# Altium schematic symbol library SDRdrum_Arty_RevA.SchLib: 22 symbols
Pins are listed as number, name and electrical type; pins without a type are passive.

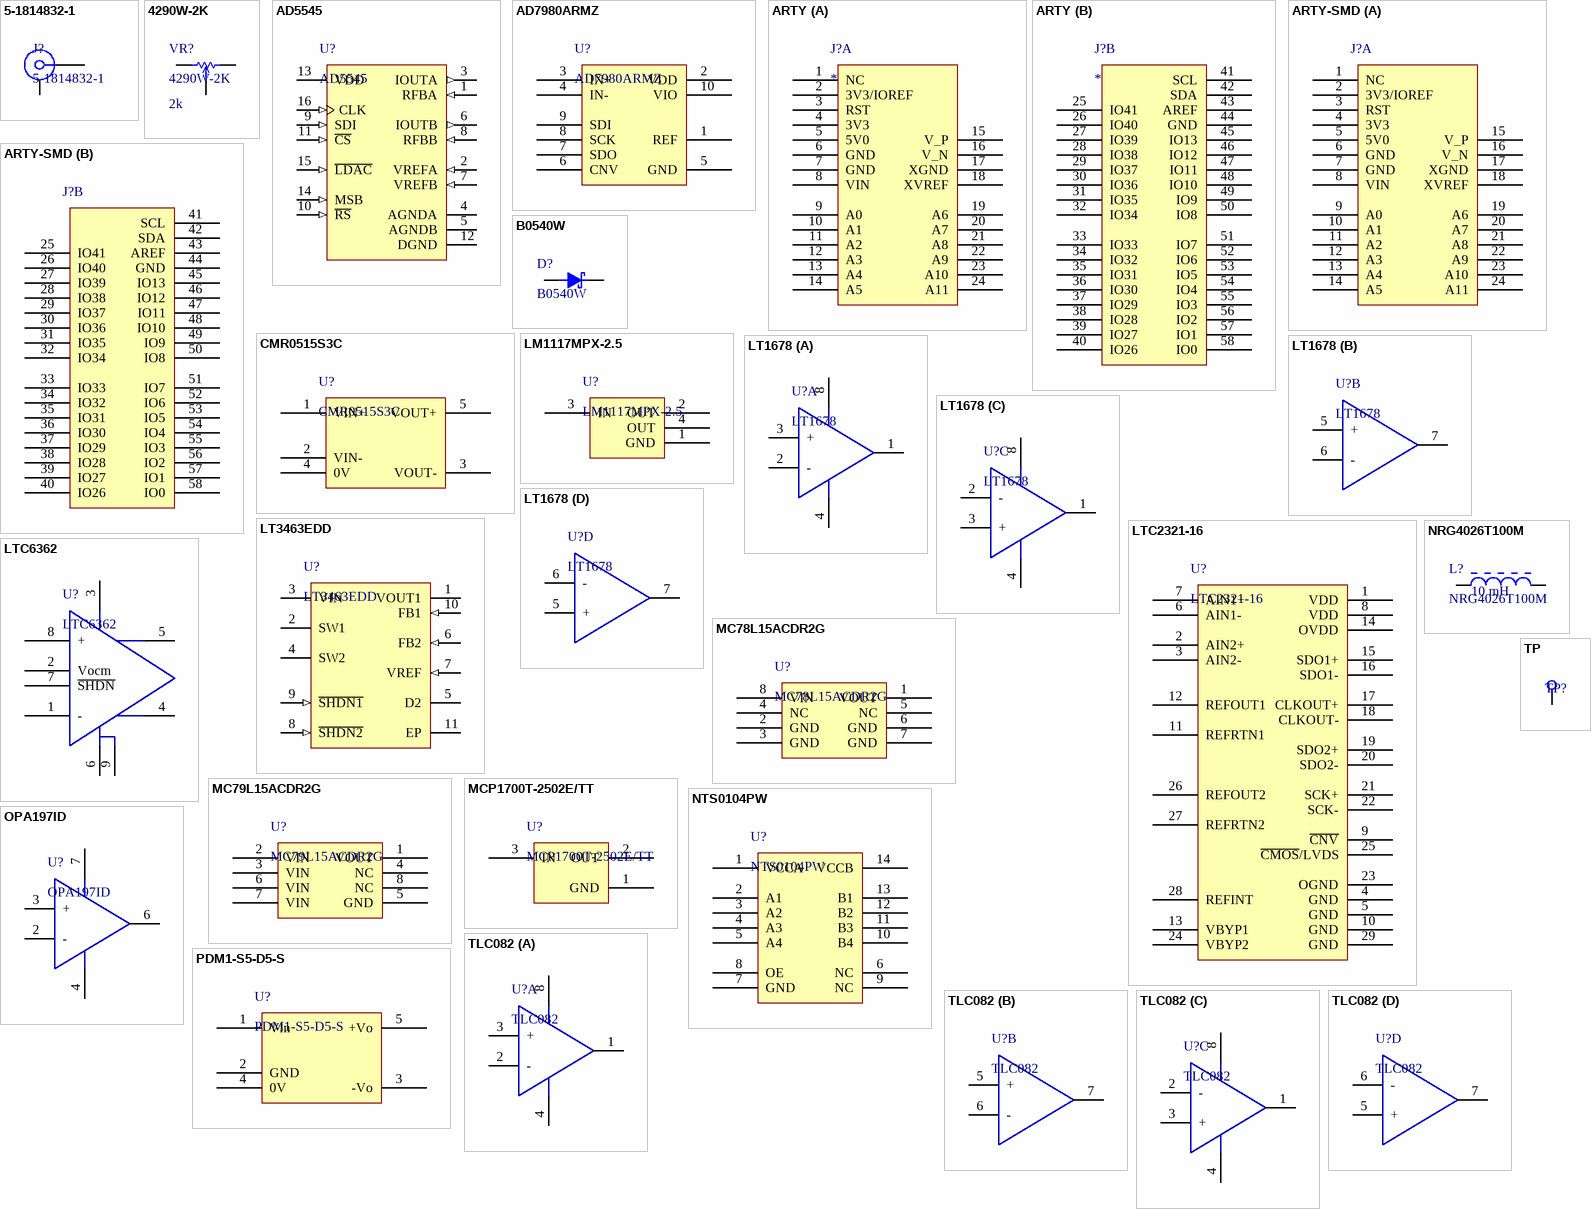
[diagram p0: symbols 5-1814832-1 to TP]

## 5-1814832-1
designator J?
footprint 5-1814832-1
pins: 1, MH

## 4290W-2K
designator VR?  value 2k
footprint 4290W
pins: 1, 2, 3

## AD5545
designator U?
Dual, Current-Output, Serial-Input, 16-Bit DAC, 16-Pin TSSOP; Supplier 1: Digi-Key; Supplier Part Number 1: AD5545BRUZ-ND
footprint TSOP65P640X120-16N (TSOP, 16-Leads, Body 5.00x4.40mm, Pitch 0.65mm, IPC Medium Density)
pins: 1 RFBA (in) "Establish voltage output for DAC A by connecting this pin to an external amplifier output", 2 VREFA (in) "DAC A Reference Voltage Input Terminal. Establishes DAC A full-scale output voltage. This pin can be tied to the VDD pin.", 3 IOUTA (out) "DAC A Current Output.", 4 AGNDA (power) "DAC A Analog Ground.", 5 AGNDB (power) "DAC B Analog Ground.", 6 IOUTB (out) "DAC B Current Output.", 7 VREFB (in) "DAC B Reference Voltage Input Terminal. Establishes DAC B full-scale output voltage. This pin can be tied to the VDD pin.", 8 RFBB (in) "Establish voltage output for DAC B by the RFBB pin connecting to an external amplifier output.", 9 SDI (in) "Serial Data Input. Input data loads directly into the shift register.", 10 ~{RS} (in) "Reset Pin, Active Low Input. Input registers and DAC registers are set to all 0s or midscale. Register Data = 0x0000 when MSB = 0. Register Data = 0x8000 for AD5545 and 0x2000 for AD5555 when MSB = 1.", 11 ~{CS} (in) "Chip Select, Active Low Input. Disables shift register loading when high. Transfers serial register data to the input register when C\S\/L\D\A\C\ returns high. This does not affect L\D\A\C\ operation.", 12 DGND (power) "Digital Ground Pin.", 13 VDD (power) "Positive Power Supply Input. Specified range of operation 5 V +/- 10% or 3 V +/- 10%.", 14 MSB (in) "MSB bit sets output to either 0 or midscale during a RESET pulse (R\S\) or at system power-on. Output equals zero scale when MSB = 0 and midscale when MSB = 1. MSB pin can also be tied permanently to ground or VDD.", 15 ~{LDAC} (in) "Load DAC Register Strobe, Level Sensitive Active Low. Transfers all input register data to DAC registers. Asynchronous active low input. See Table 7 and Table 8 for operation.", 16 CLK (in) "Clock Input. Positive edge clocks data into shift register"

## AD7980ARMZ
designator U?
footprint TSSOP50P490X110-10N (TSSOP, 10-Leads, Body 3.00x3.00mm, Pitch 0.50mm, IPC Medium Density)
pins: 1 REF, 2 VDD, 3 IN+, 4 IN-, 5 GND, 6 CNV, 7 SDO, 8 SCK, 9 SDI, 10 VIO

## ARTY
designator J?
footprint ARTY-TH
part A pins: 1 NC, 2 3V3/IOREF, 3 RST, 4 3V3, 5 5V0, 6 GND, 7 GND, 8 VIN, 9 A0, 10 A1, 11 A2, 12 A3, 13 A4, 14 A5, 15 V_P, 16 V_N, 17 XGND, 18 XVREF, 19 A6, 20 A7, 21 A8, 22 A9, 23 A10, 24 A11
part B pins: 25 IO41, 26 IO40, 27 IO39, 28 IO38, 29 IO37, 30 IO36, 31 IO35, 32 IO34, 33 IO33, 34 IO32, 35 IO31, 36 IO30, 37 IO29, 38 IO28, 39 IO27, 40 IO26, 41 SCL, 42 SDA, 43 AREF, 44 GND, 45 IO13, 46 IO12, 47 IO11, 48 IO10, 49 IO9, 50 IO8, 51 IO7, 52 IO6, 53 IO5, 54 IO4, 55 IO3, 56 IO2, 57 IO1, 58 IO0

## ARTY-SMD
designator J?  (value not drawn)
footprint ARTY-SMD
part A pins: 1 NC, 2 3V3/IOREF, 3 RST, 4 3V3, 5 5V0, 6 GND, 7 GND, 8 VIN, 9 A0, 10 A1, 11 A2, 12 A3, 13 A4, 14 A5, 15 V_P, 16 V_N, 17 XGND, 18 XVREF, 19 A6, 20 A7, 21 A8, 22 A9, 23 A10, 24 A11
part B pins: 25 IO41, 26 IO40, 27 IO39, 28 IO38, 29 IO37, 30 IO36, 31 IO35, 32 IO34, 33 IO33, 34 IO32, 35 IO31, 36 IO30, 37 IO29, 38 IO28, 39 IO27, 40 IO26, 41 SCL, 42 SDA, 43 AREF, 44 GND, 45 IO13, 46 IO12, 47 IO11, 48 IO10, 49 IO9, 50 IO8, 51 IO7, 52 IO6, 53 IO5, 54 IO4, 55 IO3, 56 IO2, 57 IO1, 58 IO0

## B0540W
designator D?
Supplier 1: Digi-Key; Supplier Part Number 1: B0540W-FDICT-ND
footprint SODFL370X135-2N (SODFL, 2-Leads, Body 1.55x3.70mm, IPC Medium Density)
pins: 1 K, 2 A

## CMR0515S3C
designator U?
Supplier 1: Digi-Key; Supplier Part Number 1: 811-2900-5-ND
footprint CMR-3C
pins: 1 VIN+, 2 VIN-, 3 VOUT-, 4 0V, 5 VOUT+

## LM1117MPX-2.5
designator U?
pins: 1 GND, 2 OUT, 3 IN, 4 OUT

## LT1678
designator U?
Dual/Quad Low Noise, Rail-to-Rail, Precision Op Amps, 8-Pin SOIC; Supplier 1: Digi-Key; Supplier Part Number 1: LT1678CS8#PBF-ND
footprint SOIC127P600X175-8M (SOIC, 8-Leads, Body 4.90x3.90mm, Pitch 1.27mm, IPC Low Density)
part A pins: 1 NC hidden, 1 OUT1, 2 -, 3 +, 4 V-, 8 NC hidden, 8 V+
part B pins: 5 +, 6 -, 7 OUT1
part C pins: 1 OUT1, 2 -, 3 +, 4 V-, 8 V+
part D pins: 5 +, 6 -, 7 OUT1

## LT3463EDD
designator U?
Dual Micropower DC/DC Converters with Schottky Diodes, 10-Pin DFN; Supplier 1: Digi-Key; Supplier Part Number 1: LT3463EDD#PBF-ND
footprint QFN50P300X300X80_HS-11N (QFN, 10-Leads, Body 3.00x3.00mm, Pitch 0.50mm, Thermal Pad 1.65x2.38mm, IPC Medium Density)
pins: 1 VOUT1 (power) "Output Voltage Switcher 1. This is the cathode of an internal Schottky diode whose anode is connected to the SW1 pin.", 2 SW1 "Switch Pin for Switcher 1. This is the collector of the internal NPN switch. Minimize the metal trace area connected to this pin to minimize EMI.", 3 VIN (power) "Input Supply Pin. Bypass this pin with a capacitor as close to the device as possible.", 4 SW2 (power) "Switch Pin for Switcher 2. This is the collector of the internal NPN switch. Minimize the metal trace area connected to this pin to minimize EMI.", 5 D2 "Diode for Switcher 2. This is the anode of an internal Schottky diode whose cathode connected to the GND pin.", 6 FB2 (in) "Feedback Pin for Switcher 2. Set the output voltage by selecting values for R3 and R4.", 7 VREF (in) "Voltage Reference Pin (1.25V). This pin is used along with FB2 to set the negative output voltage for Switcher 2.", 8 ~{SHDN2} (in) "Shutdown Pin for Switcher 2. Pull this pin above 1.5V to enable Switcher 2. Pull below 0.3V to turn it off. Do not leave this pin floating.", 9 ~{SHDN1} (in) "Shutdown Pin for Switcher 1. Pull this pin above 1.5V to enable Switcher 1. Pull below 0.3V to turn it off. Do not leave this pin floating.", 10 FB1 (in) "Feedback Pin for Switcher 1. Set the output voltage by selecting values for R1 and R2.", 11 EP (power) "Exposed Pad. Solder this exposed pad directly to the local ground plane. This pad must be electrically connected for proper operation."

## LTC2321-16
designator U?
Dual, 16-Bit, 2 Msps Differential Input ADC, 28-Pin QFN; Supplier 1: Digi-Key; Supplier Part Number 1: LTC2321CUFD-16#PBF-ND
footprint QFN50P400X500X80_HS-29N (QFN, 28-Leads, Body 4.00x5.00mm, Pitch 0.50mm, Thermal Pad 2.50x3.50mm, IPC Medium Density)
pins: 1 VDD, 2 AIN2+, 3 AIN2-, 4 GND, 5 GND, 6 AIN1-, 7 AIN1+, 8 VDD, 9 ~{CNV}, 10 GND, 11 REFRTN1, 12 REFOUT1, 13 VBYP1, 14 OVDD, 15 SDO1+, 16 SDO1-, 17 CLKOUT+, 18 CLKOUT-, 19 SDO2+, 20 SDO2-, 21 SCK+, 22 SCK-, 23 OGND, 24 VBYP2, 25 ~{CMOS}/LVDS, 26 REFOUT2, 27 REFRTN2, 28 REFINT, 29 GND

## LTC6362
designator U?
Precision, Low Power Rail-to-Rail Input/Output Differential Op Amp/SAR ADC Driver, 8-Pin DFN; Supplier 1: Digi-Key; Supplier Part Number 1: LTC6362IDD#PBF-ND
footprint QFN50P300X300X80_HS-9N (QFN, 8-Leads, Body 3.00x3.00mm, Pitch 0.50mm, Thermal Pad 2.38x1.65mm, IPC Medium Density)
pins: 1 -, 2 Vocm, 3 V+, 4 OUT+, 5 OUT-, 6 V-, 7 ~{SHDN}, 8 +, 9 V-

## MC78L15ACDR2G
designator U?
Supplier 1: Digi-Key; Supplier Part Number 1: MC78L15ACDR2GOSCT-ND
footprint SOIC127P600X175-8M (SOIC, 8-Leads, Body 4.90x3.90mm, Pitch 1.27mm, IPC Low Density)
pins: 1 VOUT, 2 GND, 3 GND, 4 NC, 5 NC, 6 GND, 7 GND, 8 VIN

## MC79L15ACDR2G
designator U?
Supplier 1: Digi-Key; Supplier Part Number 1: MC79L15ACDR2GOSCT-ND
footprint SOIC127P600X175-8M (SOIC, 8-Leads, Body 4.90x3.90mm, Pitch 1.27mm, IPC Low Density)
pins: 1 VOUT, 2 VIN, 3 VIN, 4 NC, 5 GND, 6 VIN, 7 VIN, 8 NC

## MCP1700T-2502E/TT
designator U?
Supplier 1: Digi-Key; Supplier Part Number 1: MCP1700T-2502E/TTCT-ND
footprint SOT65P237X110-3N (SOT23, 3-Leads, Body 2.86x2.37mm, Pitch 0.65mm, IPC Medium Density)
pins: 1 GND, 2 OUT, 3 IN

## NRG4026T100M
designator L?  value 10 mH
Supplier 1: Digi-Key; Supplier Part Number 1: 587-2376-1-ND
footprint INDP4040X26N (Precision Wire Wound Inductor, 2-Leads, Body 4.00x4.00mm, IPC Medium Density)
pins: 1, 2

## NTS0104PW
designator U?
Dual supply translating transceiver; open drain; auto direction sensing, 14-pin TSSOP; Supplier 1: Digi-Key; Supplier Part Number 1: 568-8382-1-ND
footprint TSOP65P640X110-14N (TSOP, 14-Leads, Body 5.00x4.40mm, Pitch 0.65mm, IPC Medium Density)
pins: 1 VCCA, 2 A1, 3 A2, 4 A3, 5 A4, 6 NC, 7 GND, 8 OE, 9 NC, 10 B4, 11 B3, 12 B2, 13 B1, 14 VCCB

## OPA197ID
designator U?
36-V, Precision, Rail-to-Rail Input/Output, LowOffset Voltage, Operational Amplifiers, 8-Pin SOIC; Supplier 1: Digi-Key; Supplier Part Number 1: 296-43866-1-ND
footprint SOIC127P600X175-8M (SOIC, 8-Leads, Body 4.90x3.90mm, Pitch 1.27mm, IPC Low Density)
pins: 1 NC hidden, 2 -, 3 +, 4 V-, 6 OUT-, 7 V+, 8 NC hidden

## PDM1-S5-D5-S
designator U?
footprint PDM-1S
pins: 1 Vin, 2 GND, 3 -Vo, 4 0V, 5 +Vo

## TLC082
designator U?
36-V, PrOperational Amplifiers, 8-Pin SOIC
footprint SOIC127P600X175-8M (SOIC, 8-Leads, Body 4.90x3.90mm, Pitch 1.27mm, IPC Low Density)
part A pins: 1 NC hidden, 1 OUT1, 2 -, 3 +, 4 V-, 8 NC hidden, 8 V+
part B pins: 5 +, 6 -, 7 OUT1
part C pins: 1 OUT1, 2 -, 3 +, 4 V-, 8 V+
part D pins: 5 +, 6 -, 7 OUT1

## TP
designator TP?  (value not drawn)
footprint TP
pins: 1